# Altium schematic symbol library Components.SchLib: 2 symbols
Pins are listed as number, name and electrical type; pins without a type are passive.

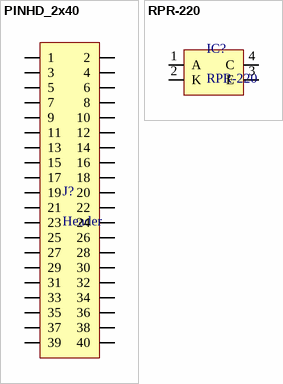
[diagram p0: symbols PINHD_2x40 to RPR-220]

## PINHD_2x40
designator J?, comment Header
Pin Header 2x40P
footprint PINHD_2.54_2X40 (Pin Header 2.54mm 2x40Pin)
pins: 1, 2, 3, 4, 5, 6, 7, 8, 9, 10, 11, 12, 13, 14, 15, 16, 17, 18, 19, 20, 21, 22, 23, 24, 25, 26, 27, 28, 29, 30, 31, 32, 33, 34, 35, 36, 37, 38, 39, 40

## RPR-220
designator IC?
Infrared Reflex Photosensor
footprint RPR_220 (RPR-220 Infrared reflective photo sensor)
pins: 1 A, 2 K, 3 E, 4 C